# Altium schematic symbol library ltc5553.SchLib: 1 symbol
Pins are listed as number, name and electrical type; pins without a type are passive.

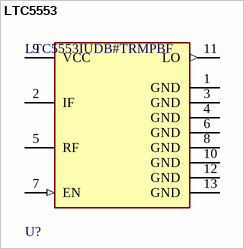
[diagram p0: symbol LTC5553]

## LTC5553
designator U?, comment LTC5553IUDB#TRMPBF
IC MIXR 3GHZ TO 20GHZ 12-QFN; RoHS Compliant: Yes
footprint FP-UDB-12-05-08-1985-MFG
pins: 1 GND (power), 2 IF, 3 GND (power), 4 GND (power), 5 RF, 6 GND (power), 7 EN (in), 8 GND (power), 9 VCC (power), 10 GND (power), 11 LO (out), 12 GND (power), 13 GND (power)